# Altium footprint library DIODES PTH.PcbLib: 146 footprints (part 6 of 10)
Each footprint in its own frame and in the unit in brackets; x right, y up, seen from the top. Pads: shape width x height; smd on the part's side, far side on the other; paste and mask are expansions set on the pad; w line width, h text height; cw(c..) or ccw(c..) is an arc to the next point about the centre after c.
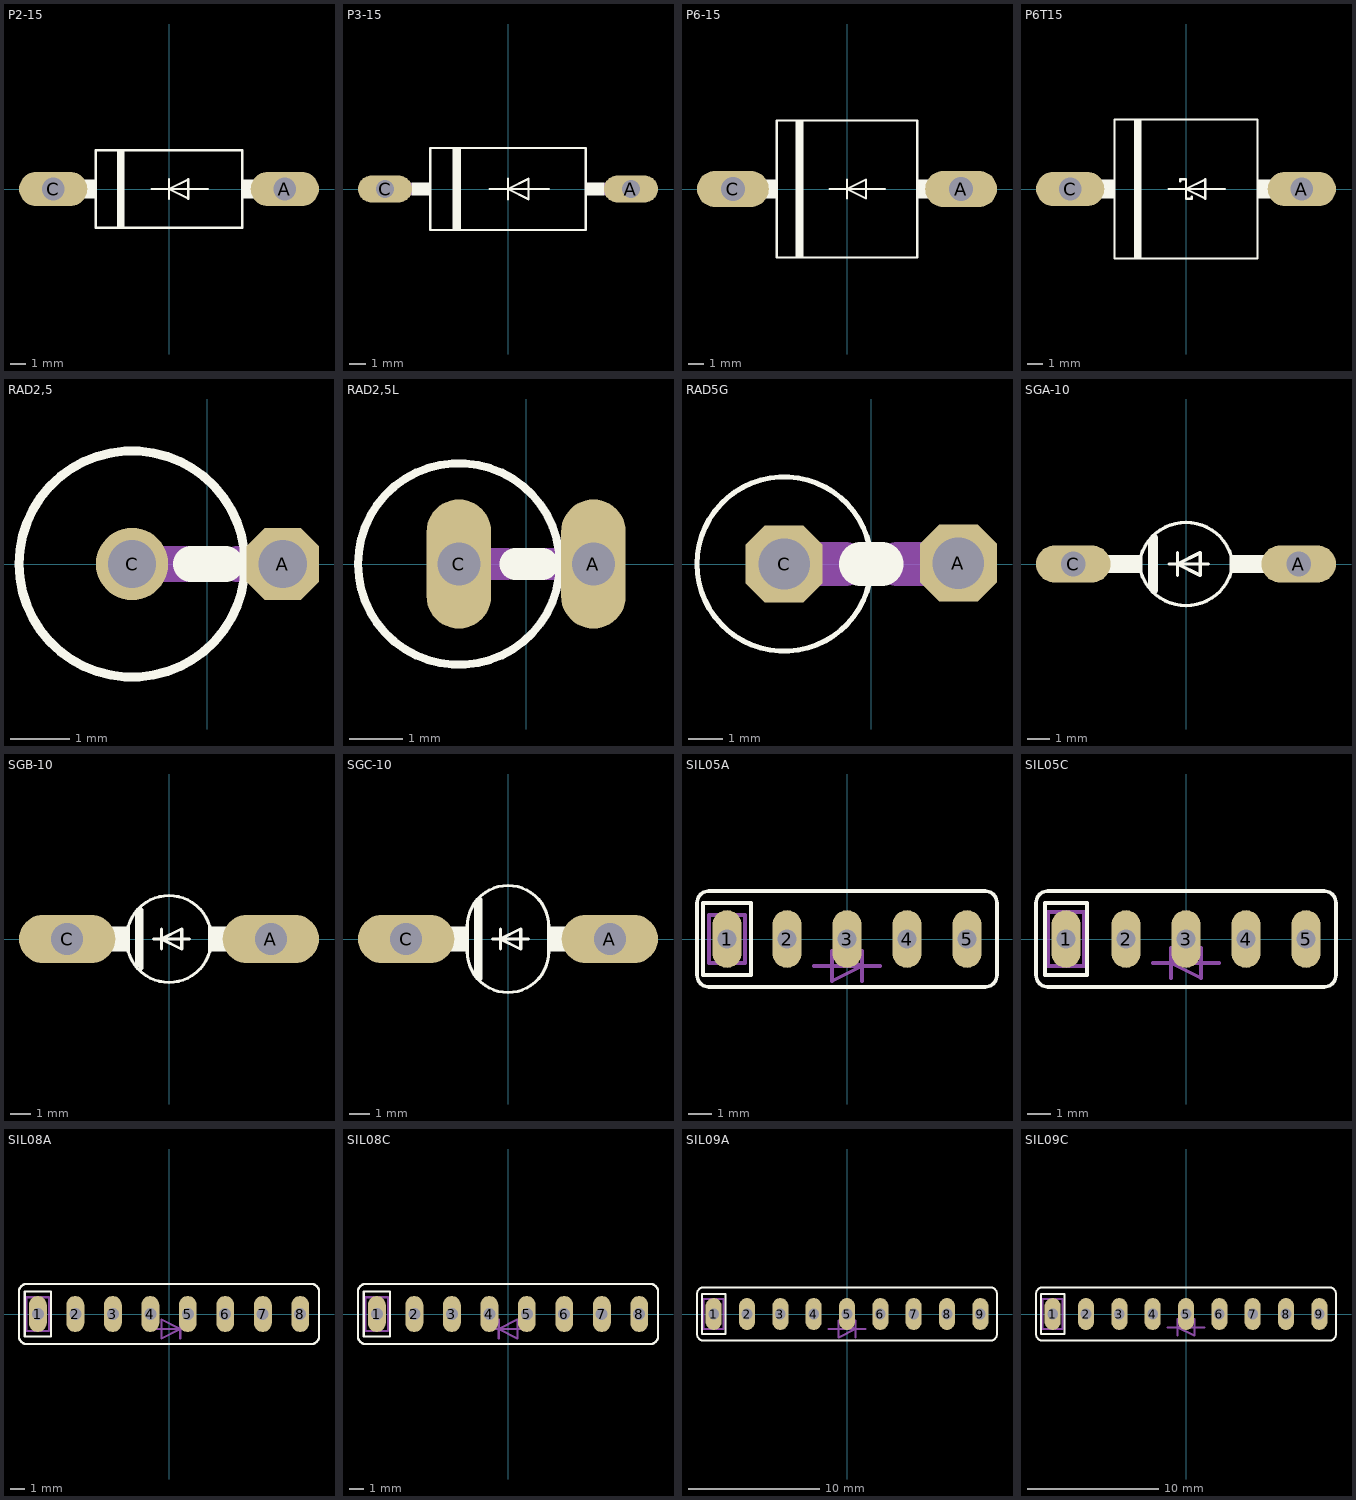
[diagram p5: the footprints below, top view; thin cyan lines are the x and y axes]

## P2-15 [mil]
pads (2):
  oval 177x88.5 hole 59: A(300,0) C(-300,0)
Top Overlay:
  rectangle: -235,-25 -190,25
  rectangle: 190,-25 235,25
  rectangle: -135,-100 -115,100
  lines w6: -45,0 0,0 ; 0,-25 0,0 ; 0,25 0,0 ; 100,0 0,0 ; 0,0 50,-25 50,25 0,0 ; -190,-100 190,-100 190,100 -190,100 -190,-100
Mechanical 16:
  lines w50: -300,0 -245,0 ; 245,0 300,0

## P3-15 [mil]
pads (2):
  oval 132x66 hole 44: A(300,0) C(-300,0)
Top Overlay:
  rectangle: -235,-16 -190,16
  rectangle: 190,-16 235,16
  rectangle: -135,-100 -115,100
  lines w6: -45,0 0,0 ; 0,-25 0,0 ; 0,25 0,0 ; 100,0 0,0 ; 0,0 50,-25 50,25 0,0 ; -190,-100 190,-100 190,100 -190,100 -190,-100
Mechanical 16:
  lines w32: -300,0 -240,0 ; 240,0 300,0

## P6-15 [mil]
pads (2):
  oval 189x94.5 hole 63: A(300,0) C(-300,0)
Top Overlay:
  rectangle: -235,-25 -185,25
  rectangle: 185,-25 235,25
  rectangle: -135,-180 -115,180
  lines w6: -45,0 0,0 ; 0,-25 0,0 ; 0,25 0,0 ; 100,0 0,0 ; 0,0 50,-25 50,25 0,0 ; -185,-180 185,-180 185,180 -185,180 -185,-180
Mechanical 16:
  lines w50: -300,0 -245,0 ; 245,0 300,0

## P6T15 [mil]
pads (2):
  oval 177x88.5 hole 59: A(300,0) C(-300,0)
Top Overlay:
  rectangle: -235,-25 -185,25
  rectangle: 185,-25 235,25
  rectangle: -135,-180 -115,180
  lines w6: -45,0 0,0 ; -15,20 -15,25 0,25 0,0 ; 15,-20 15,-25 0,-25 0,0 ; 100,0 0,0 ; 0,0 50,-25 50,25 0,0 ; -185,-180 185,-180 185,180 -185,180 -185,-180
Mechanical 16:
  lines w50: -300,0 -245,0 ; 245,0 300,0

## RAD2,5 [mil]
pads (2):
  oct 48x48 hole 32: A(50,0)
  round 48 hole 32: C(-50,0)
Top Overlay:
  circle w6: c-50,0 r75
  lines w24: -11,0 12,0
Mechanical 16:
  lines w24: -50,0 -15,0 ; 20,0 50,0

## RAD2,5L [mil]
pads (2):
  oval 48x96 hole 32: A(50,0) C(-50,0)
Top Overlay:
  circle w6: c-50,0 r75
  lines w24: -8,0 12,0
Mechanical 16:
  lines w24: -50,0 -15,0 ; 15,0 50,0

## RAD5G [mil]
pads (2):
  oct 88.5x88.5 hole 59: A(100,1) C(-100,0)
Top Overlay:
  circle w6: c-100,0 r100
  lines w50: -12,0 12,0
Mechanical 16:
  lines w50: -100,0 -30,0 ; 30,0 100,0

## SGA-10 [mil]
pads (2):
  oval 132x66 hole 44: A(200,0) C(-200,0)
Top Overlay:
  rectangle: 80,-16 152,16
  rectangle: -152,-16 -80,16
  lines w6: -30,0 -15,0 ; -15,-20 -15,0 ; -15,20 -15,0 ; 40,0 -15,0 ; -15,0 25,-20 25,20 -15,0 ; -80,-15 ccw(c0,10) 80,-15 80,15 ccw(c0,-10) -80,15 -80,-15
  lines w10: -62,-40 -62,41 ; -55,-47 -55,47
Mechanical 16:
  lines w32: -200,0 -125,0 ; 125,0 200,0

## SGB-10 [mil]
pads (2):
  oval 189x94.5 hole 63: A(200,0) C(-200,0)
Top Overlay:
  rectangle: 80,-25 130,25
  rectangle: -130,-25 -80,25
  lines w6: -30,0 -15,0 ; -15,-20 -15,0 ; -15,20 -15,0 ; 40,0 -15,0 ; -15,0 25,20 25,-20 -15,0 ; -80,-25 ccw(c0,-2) 80,-25 80,25 ccw(c0,2) -80,25 -80,-25
  lines w10: -62,-50 -62,51 ; -55,-57 -55,57
Mechanical 16:
  lines w50: -200,0 -125,0 ; 125,0 200,0

## SGC-10 [mil]
pads (2):
  oval 189x94.5 hole 63: A(200,0) C(-200,0)
Top Overlay:
  rectangle: 80,-25 130,25
  rectangle: -130,-25 -80,25
  lines w6: -30,0 -15,0 ; -15,-20 -15,0 ; -15,20 -15,0 ; 40,0 -15,0 ; -15,0 25,20 25,-20 -15,0 ; -80,-25 ccw(c0,-25) 80,-25 80,25 ccw(c0,25) -80,25 -80,-25
  lines w10: -62,-70 -62,70 ; -55,-77 -55,77
Mechanical 16:
  lines w50: -200,0 -125,0 ; 125,0 200,0

## SIL05A [mil]
pads (5):
  oval 48x96 hole 32: 1(-200,0) 2(-100,0) 3(0,0) 4(100,0) 5(200,0)
Top Overlay:
  lines w6: -250,-60 ccw(c-230,-60) -230,-80 230,-80 ccw(c230,-60) 250,-60 250,60 ccw(c230,60) 230,80 -230,80 ccw(c-230,60) -250,60 -250,-60 ; -240,-60 -160,-60 -160,60 -240,60 -240,-60
Mechanical 16:
  lines w6: -55,-45 -25,-45 ; 25,-70 25,-45 ; 25,-20 25,-45 ; 55,-45 25,-45 ; -25,-45 -25,-70 25,-45 ; -25,-45 -25,-20 25,-45 ; -25,-45 25,-45 ; -230,-40 -170,-40 -170,40 -230,40 -230,-40

## SIL05C [mil]
pads (5):
  oval 48x96 hole 32: 1(-200,0) 2(-100,0) 3(0,0) 4(100,0) 5(200,0)
Top Overlay:
  lines w6: -250,-60 ccw(c-230,-60) -230,-80 230,-80 ccw(c230,-60) 250,-60 250,60 ccw(c230,60) 230,80 -230,80 ccw(c-230,60) -250,60 -250,-60 ; -235,-60 -165,-60 -165,60 -235,60 -235,-60
Mechanical 16:
  lines w6: -55,-40 -25,-40 ; -25,-65 -25,-40 ; -25,-15 -25,-40 ; 55,-40 25,-40 ; -25,-40 25,-15 25,-40 ; -25,-40 25,-65 25,-40 ; -25,-40 25,-40 ; -230,-45 -170,-45 -170,45 -230,45 -230,-45

## SIL08A [mil]
pads (8):
  oval 48x96 hole 32: 1(-350,0) 2(-250,0) 3(-150,0) 4(-50,0) 5(50,0) 6(150,0) 7(250,0) 8(350,0)
Top Overlay:
  lines w6: -400,-60 ccw(c-380,-60) -380,-80 380,-80 ccw(c380,-60) 400,-60 400,60 ccw(c380,60) 380,80 -380,80 ccw(c-380,60) -400,60 -400,-60 ; -385,-60 -385,60 -315,60 -315,-60 -385,-60
Mechanical 16:
  lines w6: -50,-40 -20,-40 ; 30,-65 30,-40 ; 30,-15 30,-40 ; 60,-40 30,-40 ; -20,-40 30,-40 ; -20,-40 -20,-15 30,-40 ; -20,-40 -20,-65 30,-40 ; -380,-45 -380,45 -320,45 -320,-45 -380,-45

## SIL08C [mil]
pads (8):
  oval 48x96 hole 32: 1(-350,0) 2(-250,0) 3(-150,0) 4(-50,0) 5(50,0) 6(150,0) 7(250,0) 8(350,0)
Top Overlay:
  lines w6: -400,-60 ccw(c-380,-60) -380,-80 380,-80 ccw(c380,-60) 400,-60 400,60 ccw(c380,60) 380,80 -380,80 ccw(c-380,60) -400,60 -400,-60 ; -385,-60 -385,60 -315,60 -315,-60 -385,-60
Mechanical 16:
  lines w6: -55,-40 -25,-40 ; -25,-65 -25,-40 ; -25,-15 -25,-40 ; 55,-40 25,-40 ; -25,-40 25,-40 ; -25,-40 25,-65 25,-40 ; -25,-40 25,-15 25,-40 ; -380,-45 -380,45 -320,45 -320,-45 -380,-45

## SIL09A [mil]
pads (9):
  oval 48x96 hole 32: 1(-400,0) 2(-300,0) 3(-200,0) 4(-100,0) 5(0,0) 6(100,0) 7(200,0) 8(300,0) 9(400,0)
Top Overlay:
  lines w6: -450,-60 ccw(c-430,-60) -430,-80 430,-80 ccw(c430,-60) 450,-60 450,60 ccw(c430,60) 430,80 -430,80 ccw(c-430,60) -450,60 -450,-60 ; -435,-60 -435,60 -365,60 -365,-60 -435,-60
Mechanical 16:
  lines w6: -55,-45 -25,-45 ; 25,-70 25,-45 ; 25,-20 25,-45 ; 55,-45 25,-45 ; -25,-45 25,-45 ; -25,-45 -25,-20 25,-45 ; -25,-45 -25,-70 25,-45 ; -430,-45 -430,45 -370,45 -370,-45 -430,-45

## SIL09C [mil]
pads (9):
  oval 48x96 hole 32: 1(-400,0) 2(-300,0) 3(-200,0) 4(-100,0) 5(0,0) 6(100,0) 7(200,0) 8(300,0) 9(400,0)
Top Overlay:
  lines w6: -450,-60 ccw(c-430,-60) -430,-80 430,-80 ccw(c430,-60) 450,-60 450,60 ccw(c430,60) 430,80 -430,80 ccw(c-430,60) -450,60 -450,-60 ; -435,-60 -365,-60 -365,60 -435,60 -435,-60
Mechanical 16:
  lines w6: -55,-40 -25,-40 ; -25,-65 -25,-40 ; -25,-15 -25,-40 ; 55,-40 25,-40 ; -25,-40 25,-15 25,-40 ; -25,-40 25,-65 25,-40 ; -25,-40 25,-40 ; -430,-45 -370,-45 -370,45 -430,45 -430,-45